# Altium footprint library MB1720.PcbLib: 26 footprints (part 1 of 2)
Each footprint in its own frame and in the unit in brackets; x right, y up, seen from the top. Pads: shape width x height; smd on the part's side, far side on the other; paste and mask are expansions set on the pad; w line width, h text height; cw(c..) or ccw(c..) is an arc to the next point about the centre after c.
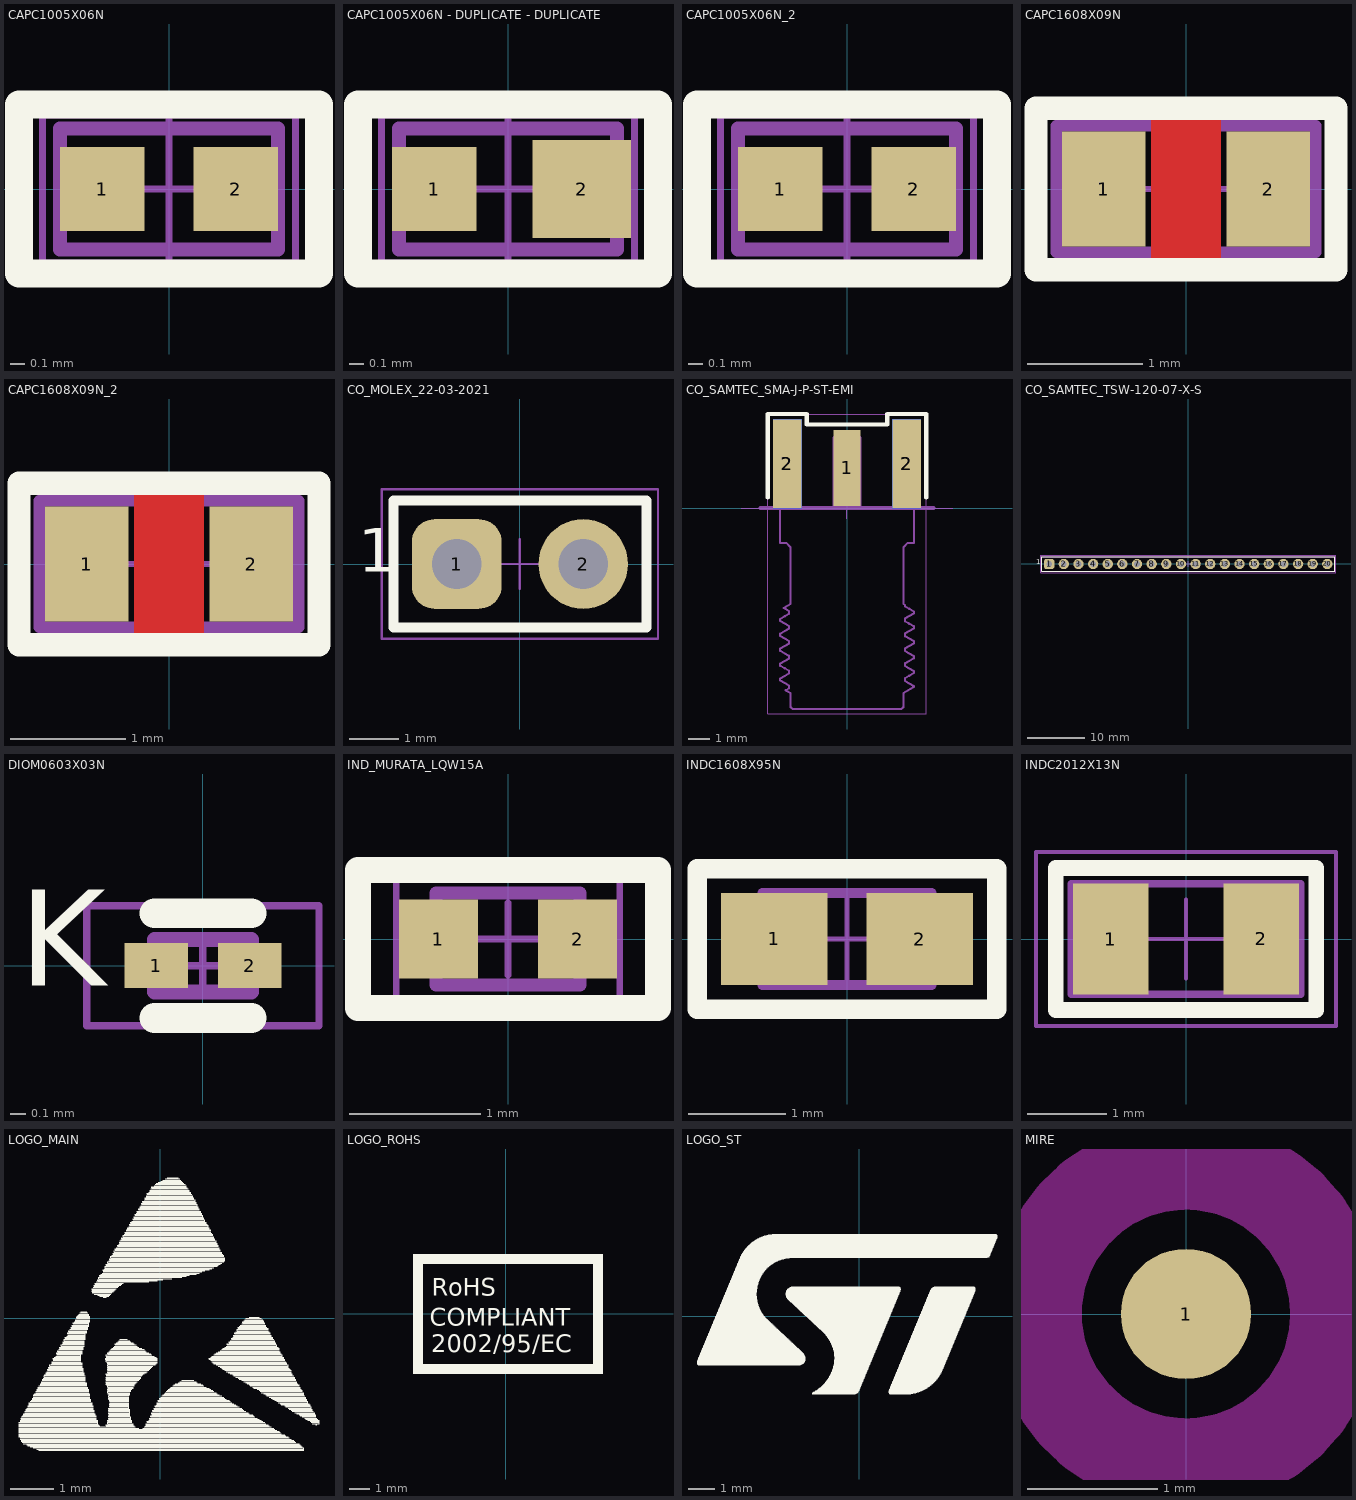
[diagram p0: the footprints below, top view; thin cyan lines are the x and y axes]

## CAPC1005X06N [mm]
pads (2):
  rect 0.6x0.6 smd: 1(-0.475,0) 2(0.475,0)
Top Overlay:
  lines w0.2: -1.067,-0.6 -1.067,0.6 1.067,0.6 1.067,-0.6 -1.067,-0.6
Mechanical 14:
  lines w0.1: -0.775,-0.43 -0.775,0.43 0.775,0.43 0.775,-0.43 -0.775,-0.43
  text ".Designator" at -1.1,0.4 h1.25
Mechanical 17:
  lines w0.05: -0.5,0 0.5,0 ; 0,-0.5 0,0.5 ; -0.9,-0.525 -0.9,0.525 0.9,0.525 0.9,-0.525 -0.9,-0.525
3D body "CAPC1005X06.step": height 0.6, standoff 0, extent -0.5,-0.25 0.5,0.25

## CAPC1005X06N - DUPLICATE - DUPLICATE [mm] "Chip Capacitor, 2-Leads, Body 1.00x0.70x0.70mm (0402)"
height 0.6
pads (2):
  rect 0.6x0.6 smd: 1(-0.525,0)
  rect 0.7x0.7 smd: 2(0.525,0)
Top Overlay:
  lines w0.2: -1.067,-0.6 -1.067,0.6 1.067,0.6 1.067,-0.6 -1.067,-0.6
Mechanical 14:
  lines w0.1: -0.775,-0.43 -0.775,0.43 0.775,0.43 0.775,-0.43 -0.775,-0.43
  text ".Designator" at -1.1,0.4 h1.25
Mechanical 17:
  lines w0.05: -0.5,0 0.5,0 ; 0,-0.5 0,0.5 ; -0.9,-0.525 -0.9,0.525 0.9,0.525 0.9,-0.525 -0.9,-0.525
3D body "CAPC1005X06.step": height 0.6, standoff 0, extent -0.5,-0.25 0.5,0.25

## CAPC1005X06N_2 [mm]
pads (2):
  rect 0.6x0.6 smd: 1(-0.475,0) 2(0.475,0)
Top Overlay:
  lines w0.2: -1.067,-0.6 1.067,-0.6 1.067,0.6 -1.067,0.6 -1.067,-0.6
Mechanical 14:
  lines w0.1: -0.775,-0.43 0.775,-0.43 0.775,0.43 -0.775,0.43 -0.775,-0.43
  text ".Designator" at -1.1,0.4 h1.25
Mechanical 17:
  lines w0.05: -0.5,0 0.5,0 ; 0,-0.5 0,0.5 ; -0.9,-0.525 0.9,-0.525 0.9,0.525 -0.9,0.525 -0.9,-0.525
3D body "CAPC1005X06.step": height 0.6, standoff 0, extent -0.5,-0.25 0.5,0.25

## CAPC1608X09N [mm] "Chip Capacitor, 2-Leads, Body 1.60x0.80x0.90mm (0603)"
height 0.9
pads (2):
  rect 0.725x1 smd: 1(-0.713,0) 2(0.713,0)
Top Layer:
  pour cut-out: -0.3,0.7 0.3,0.7 0.3,-0.7 -0.3,-0.7
Top Overlay:
  lines w0.2: -1.3,-0.7 1.3,-0.7 1.3,0.7 -1.3,0.7 -1.3,-0.7
Mechanical 14:
  lines w0.1: -1.125,-0.55 -1.125,0.55 1.125,0.55 1.125,-0.55 -1.125,-0.55
  text ".Designator" at 0.65,0.4 h1.25
Mechanical 17:
  lines w0.05: -0.5,0 0.5,0 ; 0,-0.5 0,0.5 ; -1.3,-0.7 -1.3,0.7 1.3,0.7 1.3,-0.7 -1.3,-0.7
3D body "CAPC1608X09.step": height 0.9, standoff 0, extent -0.8,-0.4 0.8,0.4

## CAPC1608X09N_2 [mm]
pads (2):
  rect 0.725x1 smd: 1(-0.713,0) 2(0.713,0)
Top Layer:
  pour cut-out: -0.3,0.7 0.3,0.7 0.3,-0.7 -0.3,-0.7
Top Overlay:
  lines w0.2: -1.3,-0.7 -1.3,0.7 1.3,0.7 1.3,-0.7 -1.3,-0.7
Mechanical 14:
  lines w0.1: -1.125,-0.55 1.125,-0.55 1.125,0.55 -1.125,0.55 -1.125,-0.55
  text ".Designator" at 0.65,0.4 h1.25
Mechanical 17:
  lines w0.05: -0.5,0 0.5,0 ; 0,-0.5 0,0.5 ; -1.3,-0.7 1.3,-0.7 1.3,0.7 -1.3,0.7 -1.3,-0.7
3D body "CAPC1608X09.step": height 0.9, standoff 0, extent -0.8,-0.4 0.8,0.4

## CO_MOLEX_22-03-2021 [mm]
height 10.8
pads (2):
  rrect50% 1.8x1.8 hole 1: 1(-1.27,0)
  round 1.8 hole 1: 2(1.27,0)
Top Overlay:
  lines w0.2: -2.54,-1.27 2.54,-1.27 2.54,1.27 -2.54,1.27 -2.54,-1.27
  text "1" at -3.25,-0.45 h1.5
Mechanical 14:
  lines w0.1: -2.54,-1.27 2.54,-1.27 2.54,1.27 -2.54,1.27 -2.54,-1.27
  text ".Designator" at 0.4,-0.55 h1.25
  text "1" at -1.6,-1.85 h1.25
Mechanical 17:
  lines w0.05: -0.5,0 0.5,0 ; 0,-0.5 0,0.5 ; -2.77,-1.5 -2.77,1.5 2.77,1.5 2.77,-1.5 -2.77,-1.5
3D body "022032021.stp": height 10.79, standoff -3.43, extent -2.413,-1.181 2.413,1.181

## CO_SAMTEC_SMA-J-P-ST-EMI [mm] "SMA Jack CMS, Edge Mountt Receptacle 50Ohm, 5-Leads, Body 6.35x6.35x9.52mm, pitch 2.825mm"
height 6.35
pads (5):
  rect 1.27x3.6 smd mask+0.05: 1(0,1.9)
  rect 1.35x4.2 smd mask+0.05: 2(-2.825,2.1) 2(2.825,2.1)
  rect 1.35x4.2 smd far side mask+0.05: 2(-2.825,2.1) 2(2.825,2.1)
Top Overlay:
  lines w0.2: -3.75,0.5 -3.75,4.45 -1.9,4.45 -1.9,3.95 1.9,3.95 1.9,4.45 3.75,4.45 3.75,0.5
Mechanical 10:
  lines w0.2: -4.1,0 4.1,0
  text "Edge of PCB" at -2,-0.825 h0.8
Mechanical 14:
  lines w0.1: -3.164,-8.074 -3.164,-8.162 -3.15,-8.169 ; -3.164,-7.369 -3.164,-7.456 -3.15,-7.464 ; -3.164,-6.663 -3.164,-6.751 -3.15,-6.758 ; -3.164,-5.958 -3.164,-6.045 -3.151,-6.052 ; -3.164,-5.252 -3.164,-5.34 -3.152,-5.346 ; -3.158,-6.052 -2.948,-6.173 -2.744,-6.291 ; -3.159,-5.951 -2.949,-5.829 -2.739,-5.708 ; -3.159,-5.346 -2.949,-5.468 -2.744,-5.586 ; -3.158,-5.245 -2.948,-5.124 -2.738,-5.002 ; -3.157,-8.169 -2.947,-8.291 -2.744,-8.408 ; -3.157,-8.067 -2.947,-7.945 -2.737,-7.823 ; -3.157,-7.464 -2.947,-7.585 -2.744,-7.703 ; -3.157,-7.361 -2.947,-7.24 -2.737,-7.118 ; -3.157,-6.758 -2.947,-6.88 -2.744,-6.997 ; -3.157,-6.656 -2.947,-6.534 -2.737,-6.413 ; -2.992,-4.737 -2.947,-4.763 -2.744,-4.88 ; -2.991,-4.732 -2.675,-4.55 -2.675,-1.85 -2.875,-1.65 -3.175,-1.65 -3.175,0 -3.175,3.81 -2.365,3.81 -2.365,0 -0.635,0 -0.635,3.335 -0.335,3.635 0,3.635 0.335,3.635 0.635,3.335 0.635,0 2.365,0 2.365,3.81 3.175,3.81 3.175,0 3.175,-1.65 2.875,-1.65 2.675,-1.85 2.675,-4.55 2.744,-4.59 2.744,-4.653 2.947,-4.77 3.157,-4.892 ; -2.9,-8.63 -2.675,-8.76 -2.675,-9.42 -2.575,-9.52 0,-9.52 2.575,-9.52 2.675,-9.42 2.675,-8.76 3.164,-8.478 3.164,-8.427 3.152,-8.42 ; -2.901,-8.624 -2.737,-8.529 ; -2.744,-8.533 -2.744,-8.404 ; -2.744,-7.828 -2.744,-7.698 ; -2.744,-7.122 -2.744,-6.993 ; -2.744,-6.417 -2.744,-6.287 ; -2.744,-5.711 -2.744,-5.582 ; -2.744,-5.006 -2.744,-4.876 ; 2.737,-7.354 2.947,-7.232 3.157,-7.111 ; 2.737,-6.649 2.947,-6.527 3.157,-6.406 ; 2.737,-5.943 2.947,-5.822 3.157,-5.7 ; 2.737,-5.237 2.947,-5.116 3.157,-4.994 ; 2.739,-8.059 2.949,-7.937 3.159,-7.816 ; 2.744,-8.185 2.744,-8.055 ; 2.744,-8.181 2.949,-8.299 3.159,-8.42 ; 2.744,-7.479 2.744,-7.35 ; 2.744,-7.475 2.948,-7.593 3.158,-7.715 ; 2.744,-6.774 2.744,-6.644 ; 2.744,-6.77 2.947,-6.887 3.157,-7.008 ; 2.744,-6.068 2.744,-5.939 ; 2.744,-6.064 2.947,-6.181 3.157,-6.303 ; 2.744,-5.363 2.744,-5.233 ; 2.744,-5.358 2.947,-5.476 3.157,-5.597 ; 3.15,-7.008 3.164,-7.016 3.164,-7.104 ; 3.15,-6.303 3.164,-6.31 3.164,-6.398 ; 3.15,-5.597 3.164,-5.605 3.164,-5.692 ; 3.151,-7.715 3.164,-7.721 3.164,-7.809 ; 3.151,-4.892 3.164,-4.899 3.164,-4.987
  text ".Designator" at 4.25,2.8 h1.25
Mechanical 16:
  lines w0.01: -5,0 5,0
Mechanical 17:
  lines w0.05: -0.5,0 0.5,0 ; 0,-0.5 0,0.5 ; 3.73,4.43 -3.75,4.43 -3.75,-9.75 3.75,-9.75 3.75,4.43
3D body "SAMTEC_SMA-J-P-H-ST-EM1.stp": height 3.8, standoff -2.55, extent -3.175,-10.133 3.175,3.197

## CO_SAMTEC_TSW-120-07-X-S [mm] "Header, 20-Leads, 50.80x2.54x10.80mm, Pitch 2.54mm"
height 10.8
pads (20):
  rrect50% 1.8x1.8 hole 1: 1(-24.13,0)
  round 1.8 hole 1: 2(-21.59,0) 3(-19.05,0) 4(-16.51,0) 5(-13.97,0) 6(-11.43,0) 7(-8.89,0) 8(-6.35,0) 9(-3.81,0) 10(-1.27,0) 11(1.27,0) 12(3.81,0) 13(6.35,0) 14(8.89,0) 15(11.43,0) 16(13.97,0) 17(16.51,0) 18(19.05,0) 19(21.59,0) 20(24.13,0)
Top Overlay:
  lines w0.2: -25.4,-1.27 -25.4,1.27 25.4,1.27 25.4,-1.27 -25.4,-1.27
  text "1" at -26.416,-0.381 h1.5
Bottom Overlay:
  lines w0.2: -25.4,-1.27 -25.4,1.27 25.4,1.27 25.4,-1.27 -25.4,-1.27
  text "1" at -26.066,-0.376 h1.5
Mechanical 14:
  lines w0.1: -25.4,-1.27 -25.4,1.27 25.4,1.27 25.4,-1.27 -25.4,-1.27
  text ".Designator" at -0.1,-0.45 h1.5
  text "1" at -26.416,-0.381 h1.5
Mechanical 17:
  lines w0.05: -0.5,0 0.5,0 ; 0,-0.5 0,0.5 ; -25.63,-1.52 25.63,-1.52 25.63,1.52 -25.63,1.52 -25.63,-1.52
3D body "SAMTEC_TSW-120-07-G-S.stp": height 8.38, standoff -2.54, extent -25.464,-1.27 25.463,1.27

## DIOM0603X03N [mm] "Molded Diode, 2-Leads, Body 0.60x0.30mm"
height 0.33
pads (2):
  rect 0.425x0.3 smd: 1(-0.313,0) 2(0.313,0)
Top Overlay:
  lines w0.2: -0.325,-0.35 0.325,-0.35 ; -0.325,0.35 0.325,0.35
  text "K" at -1.228,-0.344 h1.1
Mechanical 14:
  rectangle: -0.325,-0.175 -0.125,0.175
  lines w0.1: -0.325,-0.175 0.325,-0.175 0.325,0.175 -0.325,0.175 -0.325,-0.175
  text ".Designator" at -0.559,0.547 h1.25
  text "K" at -1.1,-0.45 h1.25
Mechanical 17:
  lines w0.05: -0.175,0 0.175,0 ; 0,-0.175 0,0.175 ; -0.775,-0.4 0.775,-0.4 0.775,0.4 -0.775,0.4 -0.775,-0.4
3D body: height 0.33, standoff 0.33, extent -0.3,-0.175 -0.075,0.175
3D body: height 0.33, standoff 0, extent -0.325,-0.175 0.325,0.175

## IND_MURATA_LQW15A [mm] "Inductor 2-Leads,Body 1.10x0.70x0.60mm(max)"
height 0.6
pads (2):
  rect 0.6x0.6 smd: 1(-0.53,0) 2(0.53,0)
Top Overlay:
  lines w0.2: -1.143,-0.525 -1.143,0.525 1.143,0.525 1.143,-0.525 -1.143,-0.525
Mechanical 14:
  lines w0.1: -0.55,-0.35 0.55,-0.35 0.55,0.35 -0.55,0.35 -0.55,-0.35
  text ".Designator" at 1.05,-0.45 h1.25
Mechanical 17:
  lines w0.05: -0.275,0 0.275,0 ; 0,-0.275 0,0.275 ; -0.85,-0.575 -0.85,0.575 0.85,0.575 0.85,-0.575 -0.85,-0.575
3D body "IND_MURATA_LQW15AN.step": height 0.51, standoff 0, extent -0.5,-0.3 0.5,0.3

## INDC1608X95N [mm] "Chip Inductor, 2-Leads, Body 1.75x0.95x0.95mm (0603)"
height 0.95
pads (2):
  rect 1.1x0.95 smd: 1(-0.75,0) 2(0.75,0)
Top Overlay:
  lines w0.2: -1.548,-0.725 -1.548,0.725 1.548,0.725 1.548,-0.725 -1.548,-0.725
Mechanical 14:
  lines w0.1: -0.875,-0.475 -0.875,0.475 0.875,0.475 0.875,-0.475 -0.875,-0.475
  text ".Designator" at 0.473,0.376 h1.25
Mechanical 17:
  lines w0.05: -0.475,0 0.475,0 ; 0,-0.475 0,0.475 ; -1.55,-0.725 -1.55,0.725 1.55,0.725 1.55,-0.725 -1.55,-0.725
3D body "Chip Inductor 0603.step": height 0.8, standoff 0, extent -0.8,-0.475 0.8,0.475

## INDC2012X13N [mm] "Chip Inductor, 2-Leads, Body 2.0x1.2x1.3 (0805)"
height 1.3
pads (2):
  rect 0.96x1.4 smd: 1(-0.952,0) 2(0.952,0)
Top Overlay:
  lines w0.2: -1.65,-0.9 -1.65,0.9 1.65,0.9 1.65,-0.9 -1.65,-0.9
Mechanical 14:
  lines w0.1: -1.452,-0.7 1.452,-0.7 1.452,0.7 -1.452,0.7 -1.452,-0.7
  text ".Designator" at -0.677,0.372 h1.25
Mechanical 17:
  lines w0.05: -0.5,0 0.5,0 ; 0,-0.5 0,0.5 ; -1.9,-1.1 1.9,-1.1 1.9,1.1 -1.9,1.1 -1.9,-1.1
3D body "Chip InductorINDC2012X130N.step": height 1.18, standoff -0.02, extent -1,-0.65 1,0.65

## LOGO_MAIN [mm]
Top Overlay:
  drawing of 674 lines, arcs and shapes, not listed

## LOGO_ROHS [mm]
Top Overlay:
  rectangle: -4.625,-3.024 4.375,-2.524
  rectangle: -4.625,2.475 4.375,2.975
  region: -4.127,-3.025 -4.127,2.975 -4.627,2.975 -4.627,-3.025
  region: 4.872,-3.025 4.872,2.975 4.372,2.975 4.372,-3.025
  text "RoHS" at -3.7,0.6 h1.5
  text "COMPLIANT" at -3.8,-0.9 h1.5
  text "2002/95/EC" at -3.725,-2.225 h1.5

## LOGO_ST [mm]
Top Overlay:
  drawing of 1036 lines, arcs and shapes, not listed

## MIRE [mm] "Fiducial Target Round , Pad 1.0mm, Keepout 3mm"
height 0.035
pads (1):
  round 1 smd mask+1: 1(0,0)
Top Layer keep-out:
  circle w0.7: c0,0 r1.15
3D body: height 0.04, standoff 0, extent -0.499,-0.499 0.499,0.499